# EAGLE library part GENERIC-1X6 (library p.peter-connectors)
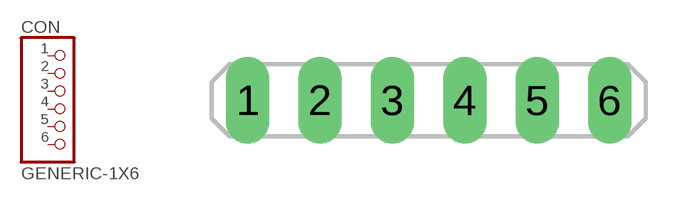
[diagram p7: symbol with the pads of PINHEADER-100MIL-1X6-NOSILK; footprint PINHEADER-100MIL-1X6-NOSILK]

Designator prefix CON

## GENERIC-1X6  [PINHEADER-100MIL-1X6-NOSILK]
1  1  pas
2  2  pas
3  3  pas
4  4  pas
5  5  pas
6  6  pas

## Footprint PINHEADER-100MIL-1X6-NOSILK (pad centres in mm)
drill 1.016 long: 1 -6.35,0; 2 -3.81,0; 3 -1.27,0; 4 1.27,0; 5 3.81,0; 6 6.35,0